# Altium schematic symbol library FPGA_Xilinx_Virtex7.SchLib: 34 symbols (part 23 of 26)
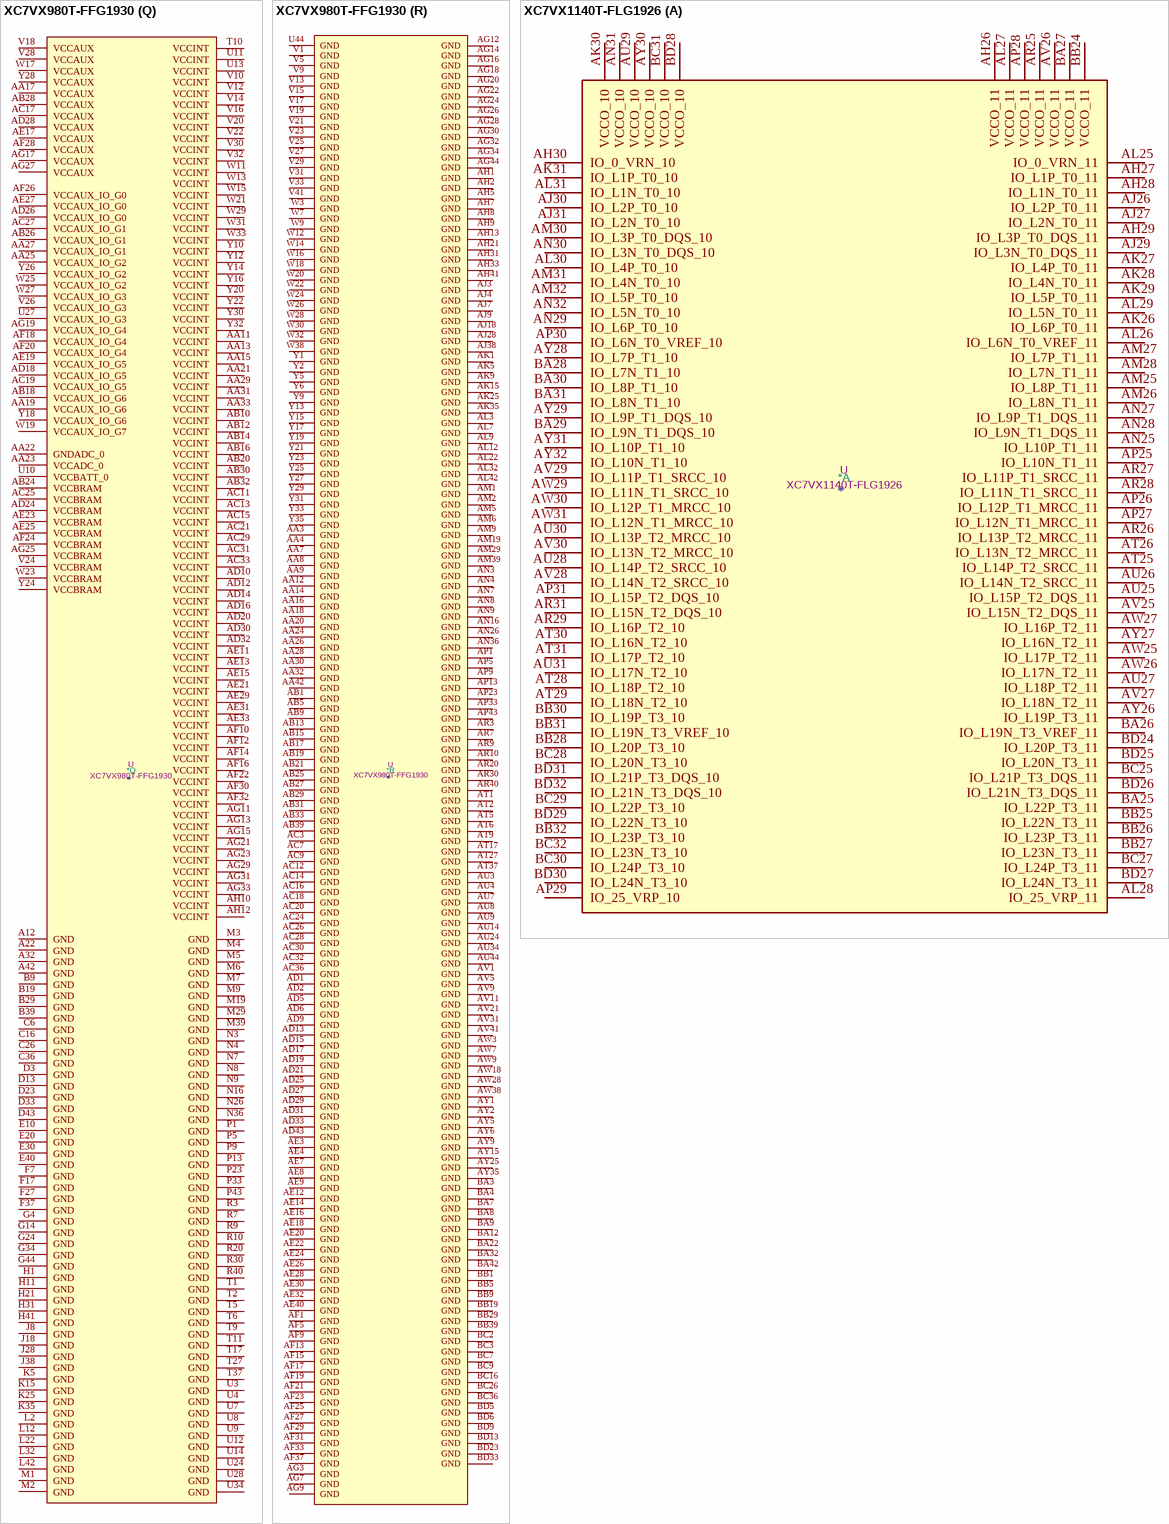
[diagram p194: symbols XC7VX980T-FFG1930 to XC7VX1140T-FLG1926]

## XC7VX980T-FFG1930
designator *  value XC7VX980T-FFG1930  Reference: U
Virtex 7 XT 980 XC7VX980T-FFG1930; ki_keywords: FPGA; Description_: Virtex 7 XT 980 XC7VX980T-FFG1930
part A pins: AH29 IO_L4P_T0_10, AH30 IO_L4N_T0_10, AJ29 IO_0_VRN_10, AJ30 IO_L1P_T0_10, AJ31 IO_L1N_T0_10, AK29 IO_L2P_T0_10, AK30 VCCO_10, AK31 IO_L5P_T0_10, AL29 IO_L2N_T0_10, AL30 IO_L3P_T0_DQS_10, AL31 IO_L5N_T0_10, AM30 IO_L3N_T0_DQS_10, AM31 IO_25_VRP_10, AN29 IO_L6P_T0_10, AN30 IO_L6N_T0_VREF_10, AN31 VCCO_10, AP29 IO_L8P_T1_10, AP30 IO_L8N_T1_10, AP31 IO_L7P_T1_10, AR29 IO_L10P_T1_10, AR31 IO_L7N_T1_10, AT29 IO_L10N_T1_10, AT30 IO_L9P_T1_DQS_10, AT31 IO_L9N_T1_DQS_10, AU29 VCCO_10, AU30 IO_L11P_T1_SRCC_10, AU31 IO_L11N_T1_SRCC_10, AV29 IO_L12P_T1_MRCC_10, AV30 IO_L12N_T1_MRCC_10, AV32 IO_L13P_T2_MRCC_10, AW29 IO_L15P_T2_DQS_10, AW30 IO_L14P_T2_SRCC_10, AW31 IO_L14N_T2_SRCC_10, AW32 IO_L13N_T2_MRCC_10, AW33 VCCO_10, AW34 IO_0_VRN_11, AW41 IO_L7P_T1_11, AW42 IO_L6P_T0_11, AW43 VCCO_11, AW44 IO_L1P_T0_11, AY29 IO_L15N_T2_DQS_10, AY30 VCCO_10, AY31 IO_L16P_T2_10, AY32 IO_L16N_T2_10, AY33 IO_L24P_T3_11, AY34 IO_25_VRP_11, AY36 IO_L18P_T2_11, AY37 IO_L16P_T2_11, AY38 IO_L16N_T2_11, AY39 IO_L11P_T1_SRCC_11, AY40 VCCO_11, AY41 IO_L7N_T1_11, AY42 IO_L6N_T0_VREF_11, AY43 IO_L3P_T0_DQS_11, AY44 IO_L1N_T0_11, BA28 IO_L17P_T2_10, BA29 IO_L17N_T2_10, BA30 IO_L18P_T2_10, BA31 IO_L18N_T2_10, BA33 IO_L24N_T3_11, BA34 IO_L19P_T3_11, BA35 IO_L19N_T3_VREF_11, BA36 IO_L18N_T2_11, BA37 VCCO_11, BA38 IO_L13P_T2_MRCC_11, BA39 IO_L11N_T1_SRCC_11, BA40 IO_L9P_T1_DQS_11, BA41 IO_L9N_T1_DQS_11, BA43 IO_L5P_T0_11, BA44 IO_L3N_T0_DQS_11, BB28 IO_L24P_T3_10, BB30 IO_L22P_T3_10, BB31 IO_L19P_T3_10, BB32 IO_L19N_T3_VREF_10, BB33 IO_L22P_T3_11, BB34 VCCO_11, BB35 IO_L23P_T3_11, BB36 IO_L15P_T2_DQS_11, BB37 IO_L15N_T2_DQS_11, BB38 IO_L13N_T2_MRCC_11, BB40 IO_L8P_T1_11, BB41 IO_L8N_T1_11, BB42 IO_L4P_T0_11, BB43 IO_L5N_T0_11, BB44 VCCO_11, BC28 IO_L24N_T3_10, BC29 IO_L23P_T3_10, BC30 IO_L22N_T3_10, BC31 VCCO_10, BC32 IO_L20P_T3_10, BC33 IO_L22N_T3_11, BC34 IO_L20P_T3_11, BC35 IO_L23N_T3_11, BC37 IO_L17P_T2_11, BC38 IO_L14P_T2_SRCC_11, BC39 IO_L12P_T1_MRCC_11, BC40 IO_L10P_T1_11, BC41 VCCO_11, BC42 IO_L2P_T0_11, BC43 IO_L4N_T0_11, BD29 IO_L23N_T3_10, BD30 IO_L21P_T3_DQS_10, BD31 IO_L21N_T3_DQS_10, BD32 IO_L20N_T3_10, BD34 IO_L20N_T3_11, BD35 IO_L21P_T3_DQS_11, BD36 IO_L21N_T3_DQS_11, BD37 IO_L17N_T2_11, BD38 VCCO_11, BD39 IO_L14N_T2_SRCC_11, BD40 IO_L12N_T1_MRCC_11, BD41 IO_L10N_T1_11, BD42 IO_L2N_T0_11
part B pins: AH26 VCCO_12, AH27 IO_L2P_T0_12, AH28 IO_0_VRN_12, AJ25 IO_L3P_T0_DQS_12, AJ26 IO_L3N_T0_DQS_12, AJ27 IO_L2N_T0_12, AK26 IO_L4P_T0_12, AK27 IO_L4N_T0_12, AK28 IO_L1P_T0_12, AL25 IO_L5P_T0_12, AL26 IO_L6P_T0_12, AL27 VCCO_12, AL28 IO_L1N_T0_12, AM25 IO_L5N_T0_12, AM26 IO_L6N_T0_VREF_12, AM27 IO_25_VRP_12, AM28 IO_L7P_T1_12, AN25 IO_L8P_T1_12, AN27 IO_L9P_T1_DQS_12, AN28 IO_L7N_T1_12, AP25 IO_L8N_T1_12, AP26 IO_L10P_T1_12, AP27 IO_L9N_T1_DQS_12, AP28 VCCO_12, AP32 IO_L24P_T3_13, AP34 IO_L21P_T3_DQS_13, AP35 IO_0_VRN_13, AP36 IO_L15P_T2_DQS_13, AP38 VCCO_13, AR25 VCCO_12, AR26 IO_L10N_T1_12, AR27 IO_L11P_T1_SRCC_12, AR28 IO_L11N_T1_SRCC_12, AR32 IO_L24N_T3_13, AR33 IO_L23P_T3_13, AR34 IO_L21N_T3_DQS_13, AR35 VCCO_13, AR36 IO_L17P_T2_13, AR37 IO_L15N_T2_DQS_13, AR38 IO_L12P_T1_MRCC_13, AR39 IO_L7P_T1_13, AR41 IO_L6P_T0_13, AR42 IO_L5P_T0_13, AR43 IO_L5N_T0_13, AR44 IO_L1P_T0_13, AT25 IO_L12P_T1_MRCC_12, AT26 IO_L12N_T1_MRCC_12, AT28 IO_L13P_T2_MRCC_12, AT32 VCCO_13, AT33 IO_L23N_T3_13, AT34 IO_L19P_T3_13, AT35 IO_L19N_T3_VREF_13, AT36 IO_L17N_T2_13, AT38 IO_L11P_T1_SRCC_13, AT39 IO_L12N_T1_MRCC_13, AT40 IO_L7N_T1_13, AT41 IO_L6N_T0_VREF_13, AT42 VCCO_13, AT43 IO_L3P_T0_DQS_13, AT44 IO_L1N_T0_13, AU25 IO_L15P_T2_DQS_12, AU26 IO_L14P_T2_SRCC_12, AU27 IO_L14N_T2_SRCC_12, AU28 IO_L13N_T2_MRCC_12, AU32 IO_L20P_T3_13, AU33 IO_L20N_T3_13, AU35 IO_25_VRP_13, AU36 IO_L13P_T2_MRCC_13, AU37 IO_L13N_T2_MRCC_13, AU38 IO_L11N_T1_SRCC_13, AU39 VCCO_13, AU40 IO_L9P_T1_DQS_13, AU41 IO_L9N_T1_DQS_13, AU42 IO_L4P_T0_13, AU43 IO_L3N_T0_DQS_13, AV25 IO_L15N_T2_DQS_12, AV26 VCCO_12, AV27 IO_L18P_T2_12, AV28 IO_L18N_T2_12, AV33 IO_L22P_T3_13, AV34 IO_L22N_T3_13, AV35 IO_L16P_T2_13, AV36 VCCO_13, AV37 IO_L14P_T2_SRCC_13, AV38 IO_L14N_T2_SRCC_13, AV39 IO_L10P_T1_13, AV40 IO_L8P_T1_13, AV42 IO_L4N_T0_13, AV43 IO_L2P_T0_13, AV44 IO_L2N_T0_13, AW25 IO_L17P_T2_12, AW26 IO_L16P_T2_12, AW27 IO_L16N_T2_12, AW35 IO_L16N_T2_13, AW36 IO_L18P_T2_13, AW37 IO_L18N_T2_13, AW39 IO_L10N_T1_13, AW40 IO_L8N_T1_13, AY26 IO_L17N_T2_12, AY27 IO_L19P_T3_12, AY28 IO_L19N_T3_VREF_12, BA25 IO_L21P_T3_DQS_12, BA26 IO_L21N_T3_DQS_12, BA27 VCCO_12, BB25 IO_L20P_T3_12, BB26 IO_L20N_T3_12, BB27 IO_L22P_T3_12, BC25 IO_L23P_T3_12, BC27 IO_L22N_T3_12, BD25 IO_L23N_T3_12, BD26 IO_L24P_T3_12, BD27 IO_L24N_T3_12, BD28 VCCO_12
part C pins: AH22 IO_L2P_T0_D02_14, AH23 IO_L2N_T0_D03_14, AH24 IO_L1P_T0_D00_MOSI_14, AH25 IO_L1N_T0_D01_DIN_14, AH32 IO_L21P_T3_DQS_15, AJ21 IO_0_VRN_14, AJ22 IO_L6P_T0_FCS_B_14, AJ23 VCCO_14, AJ24 IO_L5P_T0_D06_14, AJ32 IO_L21N_T3_DQS_A18_15, AJ33 VCCO_15, AJ34 IO_L19P_T3_A22_15, AJ35 IO_0_VRN_15, AJ36 IO_L13P_T2_MRCC_15, AK21 IO_L4P_T0_D04_14, AK22 IO_L6N_T0_D08_VREF_14, AK23 IO_L3P_T0_DQS_PUDC_B_14, AK24 IO_L5N_T0_D07_14, AK32 IO_L20P_T3_A20_15, AK33 IO_L20N_T3_A19_15, AK34 IO_L19N_T3_A21_VREF_15, AK36 IO_L16P_T2_A28_15, AK37 IO_L13N_T2_MRCC_15, AK38 IO_L11P_T1_SRCC_15, AK39 IO_L9P_T1_DQS_AD3P_15, AK40 VCCO_15, AK41 IO_L6P_T0_15, AL21 IO_L4N_T0_D05_14, AL23 IO_L3N_T0_DQS_EMCCLK_14, AL24 IO_25_VRP_14, AL33 IO_L23P_T3_FOE_B_15, AL34 IO_L23N_T3_FWE_B_15, AL35 IO_L18P_T2_A24_15, AL36 IO_L16N_T2_A27_15, AL37 VCCO_15, AL38 IO_L11N_T1_SRCC_15, AL39 IO_L9N_T1_DQS_AD3N_15, AL40 IO_L7P_T1_AD2P_15, AL41 IO_L6N_T0_VREF_15, AL43 IO_L1P_T0_AD0P_15, AL44 IO_L1N_T0_AD0N_15, AM21 IO_L8P_T1_D11_14, AM22 IO_L8N_T1_D12_14, AM23 IO_L7P_T1_D09_14, AM24 VCCO_14, AM32 IO_L22P_T3_A17_15, AM33 IO_L22N_T3_A16_15, AM34 VCCO_15, AM35 IO_L17P_T2_A26_15, AM36 IO_L18N_T2_A23_15, AM37 IO_L14P_T2_SRCC_15, AM38 IO_L14N_T2_SRCC_15, AM40 IO_L7N_T1_AD2N_15, AM41 IO_L2P_T0_AD8P_15, AM42 IO_L2N_T0_AD8N_15, AM43 IO_L5P_T0_AD9P_15, AM44 VCCO_15, AN21 VCCO_14, AN22 IO_L10P_T1_D14_14, AN23 IO_L7N_T1_D10_14, AN24 IO_L9P_T1_DQS_14, AN32 IO_25_VRP_15, AN33 IO_L24P_T3_RS1_15, AN34 IO_L24N_T3_RS0_15, AN35 IO_L17N_T2_A25_15, AN37 IO_L15P_T2_DQS_15, AN38 IO_L12P_T1_MRCC_15, AN39 IO_L12N_T1_MRCC_15, AN40 IO_L8P_T1_AD10P_15, AN41 VCCO_15, AN42 IO_L4P_T0_15, AN43 IO_L5N_T0_AD9N_15, AN44 IO_L3P_T0_DQS_AD1P_15, AP21 IO_L12P_T1_MRCC_14, AP22 IO_L10N_T1_D15_14, AP24 IO_L9N_T1_DQS_D13_14, AP37 IO_L15N_T2_DQS_ADV_B_15, AP39 IO_L10P_T1_AD11P_15, AP40 IO_L10N_T1_AD11N_15, AP41 IO_L8N_T1_AD10N_15, AP42 IO_L4N_T0_15, AP44 IO_L3N_T0_DQS_AD1N_15, AR21 IO_L13P_T2_MRCC_14, AR22 IO_L12N_T1_MRCC_14, AR23 IO_L11P_T1_SRCC_14, AR24 IO_L11N_T1_SRCC_14, AT21 IO_L13N_T2_MRCC_14, AT22 VCCO_14, AT23 IO_L14P_T2_SRCC_14, AT24 IO_L14N_T2_SRCC_14, AU21 IO_L15P_T2_DQS_RDWR_B_14, AU22 IO_L15N_T2_DQS_DOUT_CSO_B_14, AU23 IO_L16P_T2_CSI_B_14, AV22 IO_L17P_T2_A14_D30_14, AV23 IO_L16N_T2_A15_D31_14, AV24 IO_L18P_T2_A12_D28_14, AW22 IO_L17N_T2_A13_D29_14, AW23 VCCO_14, AW24 IO_L18N_T2_A11_D27_14, AY22 IO_L19P_T3_A10_D26_14, AY23 IO_L19N_T3_A09_D25_VREF_14, AY24 IO_L20P_T3_A08_D24_14, BA23 IO_L22P_T3_A05_D21_14, BA24 IO_L20N_T3_A07_D23_14, BB22 IO_L23P_T3_A03_D19_14, BB23 IO_L22N_T3_A04_D20_14, BB24 VCCO_14, BC22 IO_L21P_T3_DQS_14, BC23 IO_L23N_T3_A02_D18_14, BC24 IO_L24P_T3_A01_D17_14, BD22 IO_L21N_T3_DQS_A06_D22_14, BD24 IO_L24N_T3_A00_D16_14
part D pins: AA34 IO_L22P_T3_17, AA35 IO_L21N_T3_DQS_17, AA36 IO_L19P_T3_17, AA37 VCCO_17, AA38 IO_L15N_T2_DQS_17, AA39 IO_L14P_T2_SRCC_17, AA40 IO_L14N_T2_SRCC_17, AA41 IO_L9N_T1_DQS_17, AA43 IO_L1P_T0_17, AA44 IO_L1N_T0_17, AB34 VCCO_17, AB35 IO_L21P_T3_DQS_17, AB36 IO_L23P_T3_17, AB37 IO_L23N_T3_17, AB38 IO_L15P_T2_DQS_17, AB40 IO_L12N_T1_MRCC_17, AB41 IO_L9P_T1_DQS_17, AB42 IO_L8N_T1_17, AB43 IO_L5N_T0_17, AB44 VCCO_17, AC34 IO_L24P_T3_17, AC35 IO_L24N_T3_17, AC37 IO_25_VRP_17, AC38 IO_L17P_T2_17, AC39 IO_L17N_T2_17, AC40 IO_L12P_T1_MRCC_17, AC41 VCCO_17, AC42 IO_L8P_T1_17, AC43 IO_L5P_T0_17, AC44 IO_L3N_T0_DQS_17, AD34 IO_L20P_T3_16, AD35 IO_L20N_T3_16, AD36 IO_L19P_T3_16, AD37 IO_0_VRN_16, AD38 VCCO_16, AD39 IO_L7P_T1_16, AD40 IO_L7N_T1_16, AD41 IO_L10P_T1_17, AD42 IO_L10N_T1_17, AD44 IO_L3P_T0_DQS_17, AE34 IO_L21P_T3_DQS_16, AE35 VCCO_16, AE36 IO_L22P_T3_16, AE37 IO_L19N_T3_VREF_16, AE38 IO_L16P_T2_16, AE39 IO_L16N_T2_16, AE41 IO_L9P_T1_DQS_16, AE42 IO_L9N_T1_DQS_16, AE43 IO_L5P_T0_16, AE44 IO_L3P_T0_DQS_16, AF34 IO_L21N_T3_DQS_16, AF35 IO_L23P_T3_16, AF36 IO_L22N_T3_16, AF38 IO_L18P_T2_16, AF39 IO_L13P_T2_MRCC_16, AF40 IO_L13N_T2_MRCC_16, AF41 IO_L8P_T1_16, AF42 VCCO_16, AF43 IO_L5N_T0_16, AF44 IO_L3N_T0_DQS_16, AG35 IO_L24P_T3_16, AG36 IO_L23N_T3_16, AG37 IO_L15P_T2_DQS_16, AG38 IO_L18N_T2_16, AG39 VCCO_16, AG40 IO_L11P_T1_SRCC_16, AG41 IO_L8N_T1_16, AG42 IO_L10P_T1_16, AG43 IO_L2P_T0_16, AH34 IO_25_VRP_16, AH35 IO_L24N_T3_16, AH36 VCCO_16, AH37 IO_L17P_T2_16, AH38 IO_L15N_T2_DQS_16, AH39 IO_L14P_T2_SRCC_16, AH40 IO_L11N_T1_SRCC_16, AH42 IO_L10N_T1_16, AH43 IO_L2N_T0_16, AH44 IO_L1P_T0_16, AJ37 IO_L17N_T2_16, AJ39 IO_L14N_T2_SRCC_16, AJ40 IO_L12P_T1_MRCC_16, AJ41 IO_L12N_T1_MRCC_16, AJ42 IO_L6P_T0_16, AJ43 VCCO_16, AJ44 IO_L1N_T0_16, AK42 IO_L6N_T0_VREF_16, AK43 IO_L4P_T0_16, AK44 IO_L4N_T0_16, V42 IO_L7N_T1_17, V43 IO_L2P_T0_17, V44 IO_L2N_T0_17, W34 IO_L20P_T3_17, W35 IO_L20N_T3_17, W36 IO_0_VRN_17, W37 IO_L16N_T2_17, W39 IO_L18N_T2_17, W40 IO_L13N_T2_MRCC_17, W41 IO_L11N_T1_SRCC_17, W42 IO_L7P_T1_17, W43 VCCO_17, W44 IO_L4N_T0_17, Y34 IO_L22N_T3_17, Y36 IO_L19N_T3_VREF_17, Y37 IO_L16P_T2_17, Y38 IO_L18P_T2_17, Y39 IO_L13P_T2_MRCC_17, Y40 VCCO_17, Y41 IO_L11P_T1_SRCC_17, Y42 IO_L6P_T0_17, Y43 IO_L6N_T0_VREF_17, Y44 IO_L4P_T0_17
part E pins: K40 VCCO_19, L37 VCCO_19, M34 VCCO_19, M44 VCCO_19, N31 VCCO_19, N41 VCCO_19, P35 IO_0_VRN_18, P36 IO_L8N_T1_18, P37 IO_L12N_T1_MRCC_18, P38 VCCO_18, P39 IO_L15P_T2_DQS_18, P40 IO_L15N_T2_DQS_18, P41 IO_L21P_T3_DQS_18, P42 IO_L21N_T3_DQS_18, P44 IO_L24N_T3_18, R31 IO_L2P_T0_18, R32 IO_L2N_T0_18, R33 IO_L4P_T0_18, R34 IO_L4N_T0_18, R35 VCCO_18, R36 IO_L8P_T1_18, R37 IO_L12P_T1_MRCC_18, R38 IO_L14P_T2_SRCC_18, R39 IO_L14N_T2_SRCC_18, R41 IO_L19N_T3_VREF_18, R42 IO_L23P_T3_18, R43 IO_L23N_T3_18, R44 IO_L24P_T3_18, T30 IO_L1P_T0_18, T31 IO_L1N_T0_18, T32 VCCO_18, T33 IO_L6P_T0_18, T34 IO_L6N_T0_VREF_18, T35 IO_L10P_T1_18, T36 IO_L10N_T1_18, T38 IO_L13N_T2_MRCC_18, T39 IO_L17P_T2_18, T40 IO_L17N_T2_18, T41 IO_L19P_T3_18, T42 VCCO_18, T43 IO_L22P_T3_18, T44 IO_L22N_T3_18, U30 IO_L3P_T0_DQS_18, U31 IO_L3N_T0_DQS_18, U32 IO_L5P_T0_18, U33 IO_L5N_T0_18, U35 IO_L9N_T1_DQS_18, U36 IO_L7P_T1_18, U37 IO_L7N_T1_18, U38 IO_L13P_T2_MRCC_18, U39 VCCO_18, U40 IO_L18P_T2_18, U41 IO_L18N_T2_18, U42 IO_L20P_T3_18, U43 IO_L20N_T3_18, V34 IO_25_VRP_18, V35 IO_L9P_T1_DQS_18, V36 VCCO_18, V37 IO_L11P_T1_SRCC_18, V38 IO_L11N_T1_SRCC_18, V39 IO_L16P_T2_18, V40 IO_L16N_T2_18
part F pins: A37 VCCO_21, B34 VCCO_21, C31 VCCO_21, C41 VCCO_21, D38 VCCO_21, E35 VCCO_20, F32 VCCO_20, F42 VCCO_21, G39 VCCO_20, H36 VCCO_20, J33 VCCO_20, J43 VCCO_20
part G pins: AH14 IO_0_VRN_31, AH15 IO_L4P_T0_31, AH16 VCCO_31, AH17 IO_25_VRP_30, AH18 IO_0_VRN_30, AH19 IO_L3P_T0_DQS_30, AH20 IO_L5P_T0_30, AJ14 IO_L1P_T0_31, AJ15 IO_L4N_T0_31, AJ16 IO_L2P_T0_31, AJ17 IO_L1P_T0_30, AJ19 IO_L3N_T0_DQS_30, AJ20 IO_L5N_T0_30, AK14 IO_L1N_T0_31, AK16 IO_L2N_T0_31, AK17 IO_L1N_T0_30, AK18 IO_L2P_T0_30, AK19 IO_L4P_T0_30, AK20 VCCO_30, AL14 IO_L3N_T0_DQS_31, AL15 IO_L3P_T0_DQS_31, AL16 IO_L5P_T0_31, AL17 VCCO_30, AL18 IO_L2N_T0_30, AL19 IO_L4N_T0_30, AL20 IO_L6P_T0_30, AM14 VCCO_31, AM15 IO_L6P_T0_31, AM16 IO_L5N_T0_31, AM17 IO_25_VRP_31, AM18 IO_L7P_T1_30, AM20 IO_L6N_T0_VREF_30, AN15 IO_L6N_T0_VREF_31, AN17 IO_L7N_T1_30, AN18 IO_L8N_T1_30, AN19 IO_L8P_T1_30, AN20 IO_L10P_T1_30, AP14 IO_L8N_T1_31, AP15 IO_L8P_T1_31, AP16 IO_L10P_T1_31, AP17 IO_L7P_T1_31, AP18 VCCO_30, AP19 IO_L9P_T1_DQS_30, AP20 IO_L10N_T1_30, AR14 IO_L9P_T1_DQS_31, AR15 VCCO_31, AR16 IO_L10N_T1_31, AR17 IO_L7N_T1_31, AR18 IO_L9N_T1_DQS_30, AR19 IO_L12P_T1_MRCC_30, AT14 IO_L9N_T1_DQS_31, AT15 IO_L11P_T1_SRCC_31, AT16 IO_L12P_T1_MRCC_31, AT18 IO_L12N_T1_MRCC_30, AT19 IO_L11N_T1_SRCC_30, AT20 IO_L11P_T1_SRCC_30, AU15 IO_L11N_T1_SRCC_31, AU16 IO_L12N_T1_MRCC_31, AU17 IO_L14P_T2_SRCC_31, AU18 IO_L14P_T2_SRCC_30, AU19 VCCO_30, AU20 IO_L13P_T2_MRCC_30, AV14 IO_L13N_T2_MRCC_31, AV15 IO_L13P_T2_MRCC_31, AV16 VCCO_31, AV17 IO_L14N_T2_SRCC_31, AV18 IO_L14N_T2_SRCC_30, AV19 IO_L15P_T2_DQS_30, AV20 IO_L13N_T2_MRCC_30, AW14 IO_L15P_T2_DQS_31, AW15 IO_L17N_T2_31, AW16 IO_L17P_T2_31, AW17 IO_L18P_T2_31, AW19 IO_L15N_T2_DQS_30, AW20 IO_L18P_T2_30, AW21 IO_L16P_T2_30, AY14 IO_L15N_T2_DQS_31, AY16 IO_L16P_T2_31, AY17 IO_L18N_T2_31, AY18 IO_L17P_T2_30, AY19 IO_L18N_T2_30, AY20 VCCO_30, AY21 IO_L16N_T2_30, BA14 IO_L19N_T3_VREF_31, BA15 IO_L19P_T3_31, BA16 IO_L16N_T2_31, BA17 VCCO_31, BA18 IO_L17N_T2_30, BA19 IO_L19N_T3_VREF_30, BA20 IO_L19P_T3_30, BA21 IO_L20P_T3_30, BB14 VCCO_31, BB15 IO_L20N_T3_31, BB16 IO_L20P_T3_31, BB17 IO_L23P_T3_31, BB18 IO_L23P_T3_30, BB20 IO_L22P_T3_30, BB21 IO_L20N_T3_30, BC14 IO_L22N_T3_31, BC15 IO_L22P_T3_31, BC17 IO_L23N_T3_31, BC18 IO_L23N_T3_30, BC19 IO_L21P_T3_DQS_30, BC20 IO_L22N_T3_30, BC21 VCCO_30, BD14 IO_L21N_T3_DQS_31, BD15 IO_L21P_T3_DQS_31, BD16 IO_L24N_T3_31, BD17 IO_L24P_T3_31, BD18 VCCO_30, BD19 IO_L21N_T3_DQS_30, BD20 IO_L24N_T3_30, BD21 IO_L24P_T3_30
part H pins: A27 VCCO_33, A28 IO_L20P_T3_33, A29 IO_L20N_T3_33, A30 IO_L24N_T3_33, AJ12 IO_L1P_T0_32, AJ13 VCCO_32, AK11 IO_0_VRN_32, AK12 IO_L1N_T0_32, AK13 IO_L2P_T0_32, AL10 IO_L4N_T0_32, AL11 IO_L4P_T0_32, AL13 IO_L2N_T0_32, AM10 IO_L6N_T0_VREF_32, AM11 IO_L6P_T0_32, AM12 IO_L3P_T0_DQS_32, AM13 IO_L5P_T0_32, AN10 IO_L8P_T1_32, AN11 VCCO_32, AN12 IO_L3N_T0_DQS_32, AN13 IO_L5N_T0_32, AN14 IO_25_VRP_32, AP10 IO_L8N_T1_32, AP11 IO_L10P_T1_32, AP12 IO_L7P_T1_32, AR11 IO_L10N_T1_32, AR12 IO_L7N_T1_32, AR13 IO_L9P_T1_DQS_32, AT10 IO_L12N_T1_MRCC_32, AT11 IO_L12P_T1_MRCC_32, AT12 VCCO_32, AT13 IO_L9N_T1_DQS_32, AU10 IO_L13N_T2_MRCC_32, AU11 IO_L13P_T2_MRCC_32, AU12 IO_L11N_T1_SRCC_32, AU13 IO_L11P_T1_SRCC_32, AV10 IO_L15P_T2_DQS_32, AV12 IO_L14N_T2_SRCC_32, AV13 IO_L14P_T2_SRCC_32, AW10 IO_L15N_T2_DQS_32, AW11 IO_L17P_T2_32, AW12 IO_L16P_T2_32, AW13 VCCO_32, AY10 VCCO_32, AY11 IO_L17N_T2_32, AY12 IO_L16N_T2_32, AY13 IO_L18P_T2_32, B27 IO_L23P_T3_33, B28 IO_L23N_T3_33, B30 IO_L24P_T3_33, BA10 IO_L19N_T3_VREF_32, BA11 IO_L19P_T3_32, BA13 IO_L18N_T2_32, BB10 IO_L21N_T3_DQS_32, BB11 IO_L21P_T3_DQS_32, BB12 IO_L20N_T3_32, BB13 IO_L20P_T3_32, BC10 IO_L23P_T3_32, BC11 VCCO_32, BC12 IO_L22N_T3_32, BC13 IO_L22P_T3_32, BD10 IO_L23N_T3_32, BD11 IO_L24N_T3_32, BD12 IO_L24P_T3_32, C27 IO_L21P_T3_DQS_33, C28 IO_L21N_T3_DQS_33, C29 IO_L22P_T3_33, C30 IO_L22N_T3_33, D27 IO_L15N_T2_DQS_33, D28 VCCO_33, D29 IO_L19P_T3_33, D30 IO_L19N_T3_VREF_33, E27 IO_L15P_T2_DQS_33, E28 IO_L17N_T2_33, E29 IO_L16N_T2_33, F28 IO_L17P_T2_33, F29 IO_L16P_T2_33, F30 IO_L18N_T2_33, G27 IO_L14P_T2_SRCC_33, G28 IO_L14N_T2_SRCC_33, G29 VCCO_33, G30 IO_L18P_T2_33, H27 IO_L13P_T2_MRCC_33, H28 IO_L13N_T2_MRCC_33, H29 IO_L12P_T1_MRCC_33, H30 IO_L12N_T1_MRCC_33, J27 IO_L10N_T1_33, J29 IO_L11P_T1_SRCC_33, J30 IO_L11N_T1_SRCC_33, K27 IO_L10P_T1_33, K28 IO_L8N_T1_33, K29 IO_L9N_T1_DQS_33, K30 VCCO_33, L27 VCCO_33, L28 IO_L8P_T1_33, L29 IO_L9P_T1_DQS_33, M27 IO_L7P_T1_33, M28 IO_L7N_T1_33, N27 IO_L5P_T0_33, N28 IO_L5N_T0_33, N29 IO_25_VRP_33, P26 IO_L4P_T0_33, P27 IO_L4N_T0_33, P28 VCCO_33, P29 IO_L3N_T0_DQS_33, R26 IO_L2N_T0_33, R27 IO_L6P_T0_33, R28 IO_L6N_T0_VREF_33, R29 IO_L3P_T0_DQS_33, T26 IO_L2P_T0_33, T28 IO_L1P_T0_33, T29 IO_L1N_T0_33, U26 IO_0_VRN_33, U29 VCCO_33
part I pins: A20 IO_L24N_T3_35, A21 IO_L24P_T3_35, A23 IO_L23N_T3_35, A24 IO_L21P_T3_DQS_34, A25 IO_L21N_T3_DQS_34, A26 IO_L23N_T3_34, B20 IO_L20N_T3_35, B21 IO_L22N_T3_35, B22 IO_L21N_T3_DQS_35, B23 IO_L23P_T3_35, B24 VCCO_34, B25 IO_L24N_T3_34, B26 IO_L23P_T3_34, C20 IO_L20P_T3_35, C21 VCCO_35, C22 IO_L22P_T3_35, C23 IO_L21P_T3_DQS_35, C24 IO_L24P_T3_34, C25 IO_L22N_T3_34, D20 IO_L19N_T3_VREF_35, D21 IO_L19P_T3_35, D22 IO_L18N_T2_35, D24 IO_L20N_T3_34, D25 IO_L22P_T3_34, D26 IO_L19N_T3_VREF_34, E21 IO_L16N_T2_35, E22 IO_L16P_T2_35, E23 IO_L18P_T2_35, E24 IO_L20P_T3_34, E25 VCCO_34, E26 IO_L19P_T3_34, F20 IO_L15N_T2_DQS_35, F21 IO_L17N_T2_35, F22 VCCO_35, F23 IO_L17N_T2_34, F24 IO_L16P_T2_34, F25 IO_L16N_T2_34, F26 IO_L18N_T2_34, G20 IO_L15P_T2_DQS_35, G21 IO_L17P_T2_35, G22 IO_L14N_T2_SRCC_35, G23 IO_L17P_T2_34, G25 IO_L15N_T2_DQS_34, G26 IO_L18P_T2_34, H20 IO_L13N_T2_MRCC_35, H22 IO_L14P_T2_SRCC_35, H23 IO_L13P_T2_MRCC_34, H24 IO_L13N_T2_MRCC_34, H25 IO_L15P_T2_DQS_34, H26 VCCO_34, J20 IO_L13P_T2_MRCC_35, J21 IO_L12N_T1_MRCC_35, J22 IO_L11N_T1_SRCC_35, J23 VCCO_34, J24 IO_L12N_T1_MRCC_34, J25 IO_L14P_T2_SRCC_34, J26 IO_L14N_T2_SRCC_34, K20 VCCO_35, K21 IO_L12P_T1_MRCC_35, K22 IO_L11P_T1_SRCC_35, K23 IO_L10N_T1_34, K24 IO_L12P_T1_MRCC_34, K26 IO_L11N_T1_SRCC_34, L19 IO_L9N_T1_DQS_AD7N_35, L20 IO_L9P_T1_DQS_AD7P_35, L21 IO_L10N_T1_AD15N_35, L23 IO_L10P_T1_34, L24 IO_L7P_T1_34, L25 IO_L7N_T1_34, L26 IO_L11P_T1_SRCC_34, M20 IO_L8N_T1_AD14N_35, M21 IO_L10P_T1_AD15P_35, M22 IO_L7N_T1_AD6N_35, M23 IO_L8N_T1_34, M24 VCCO_34, M25 IO_L9P_T1_DQS_34, M26 IO_L9N_T1_DQS_34, N19 IO_L6N_T0_VREF_35, N20 IO_L8P_T1_AD14P_35, N21 VCCO_35, N22 IO_L7P_T1_AD6P_35, N23 IO_L8P_T1_34, N24 IO_L1N_T0_34, N25 IO_25_VRP_34, P18 VCCO_35, P19 IO_L4N_T0_35, P20 IO_L6P_T0_35, P21 IO_25_VRP_35, P22 IO_L4N_T0_34, P24 IO_L1P_T0_34, P25 IO_L3N_T0_DQS_34, R18 IO_L2N_T0_AD12N_35, R19 IO_L4P_T0_35, R21 IO_L5N_T0_AD13N_35, R22 IO_L4P_T0_34, R23 IO_L2N_T0_34, R24 IO_L3P_T0_DQS_34, R25 VCCO_34, T18 IO_L2P_T0_AD12P_35, T19 IO_L1N_T0_AD4N_35, T20 IO_L1P_T0_AD4P_35, T21 IO_L5P_T0_AD13P_35, T22 VCCO_34, T23 IO_L2P_T0_34, T24 IO_L6N_T0_VREF_34, T25 IO_L5N_T0_34, U18 IO_0_VRN_35, U19 VCCO_35, U20 IO_L3N_T0_DQS_AD5N_35, U21 IO_L3P_T0_DQS_AD5P_35, U22 IO_0_VRN_34, U23 IO_L6P_T0_34, U25 IO_L5P_T0_34
part J pins: A3 IO_L1N_T0_36, A4 IO_L1P_T0_36, A5 IO_L4N_T0_36, A6 IO_L2N_T0_36, A7 VCCO_37, A8 IO_L2N_T0_37, A9 IO_L2P_T0_37, A10 IO_L3N_T0_DQS_37, A11 IO_L1N_T0_37, B2 IO_L5N_T0_36, B3 IO_L3N_T0_DQS_36, B4 VCCO_36, B5 IO_L4P_T0_36, B6 IO_L2P_T0_36, B7 IO_L4N_T0_37, B8 IO_L4P_T0_37, B10 IO_L3P_T0_DQS_37, B11 IO_L1P_T0_37, C1 VCCO_36, C2 IO_L5P_T0_36, C3 IO_L3P_T0_DQS_36, C4 IO_L6N_T0_VREF_36, C5 IO_L6P_T0_36, C7 IO_L6N_T0_VREF_37, C8 IO_L6P_T0_37, C9 IO_L5N_T0_37, C10 IO_L5P_T0_37, C11 VCCO_37, D1 IO_L7N_T1_36, D2 IO_L7P_T1_36, D4 IO_L10N_T1_36, D5 IO_L8N_T1_36, D6 IO_L10N_T1_37, D7 IO_L10P_T1_37, D8 VCCO_37, D9 IO_L9N_T1_DQS_37, D10 IO_L9P_T1_DQS_37, D11 IO_L7N_T1_37, E1 IO_L9N_T1_DQS_36, E2 IO_L12N_T1_MRCC_36, E3 IO_L12P_T1_MRCC_36, E4 IO_L10P_T1_36, E5 VCCO_36, E6 IO_L8P_T1_36, E7 IO_L12N_T1_MRCC_37, E8 IO_L8N_T1_37, E9 IO_L8P_T1_37, E11 IO_L7P_T1_37, F1 IO_L9P_T1_DQS_36, F2 VCCO_36, F3 IO_L11N_T1_SRCC_36, F4 IO_L11P_T1_SRCC_36, F5 IO_L13N_T2_MRCC_36, F6 IO_L13P_T2_MRCC_36, F8 IO_L12P_T1_MRCC_37, F9 IO_L11N_T1_SRCC_37, F10 IO_L11P_T1_SRCC_37, F11 IO_L13N_T2_MRCC_37, G1 IO_L18N_T2_36, G2 IO_L14N_T2_SRCC_36, G3 IO_L14P_T2_SRCC_36, G5 IO_L15N_T2_DQS_36, G6 IO_L15P_T2_DQS_36, G7 IO_L14N_T2_SRCC_37, G8 IO_L14P_T2_SRCC_37, G9 VCCO_37, G10 IO_L16N_T2_37, G11 IO_L13P_T2_MRCC_37, H2 IO_L18P_T2_36, H3 IO_L16N_T2_36, H4 IO_L16P_T2_36, H5 IO_L17N_T2_36, H6 VCCO_36, H7 IO_L17N_T2_37, H8 IO_L17P_T2_37, H9 IO_L15N_T2_DQS_37, H10 IO_L16P_T2_37, J1 IO_L20N_T3_36, J2 IO_L20P_T3_36, J3 VCCO_36, J4 IO_L19N_T3_VREF_36, J5 IO_L19P_T3_36, J6 IO_L17P_T2_36, J7 IO_L20N_T3_37, J9 IO_L15P_T2_DQS_37, J10 IO_L18N_T2_37, J11 IO_L18P_T2_37, K1 IO_L22N_T3_36, K2 IO_L23N_T3_36, K3 IO_L21N_T3_DQS_36, K4 IO_L21P_T3_DQS_36, K6 IO_0_VRN_36, K7 IO_L20P_T3_37, K8 IO_L19N_T3_VREF_37, K9 IO_L19P_T3_37, K10 VCCO_37, K11 IO_0_VRN_37, L1 IO_L22P_T3_36, L3 IO_L23P_T3_36, L4 IO_25_VRP_36, L5 IO_L24N_T3_36, L6 IO_L24P_T3_36, L7 VCCO_37, L8 IO_L22N_T3_37, L9 IO_L22P_T3_37, L10 IO_L21N_T3_DQS_37, L11 IO_L21P_T3_DQS_37, M8 IO_25_VRP_37, M10 IO_L23N_T3_37, M11 IO_L23P_T3_37, N10 IO_L24N_T3_37, N11 VCCO_37, P10 IO_L24P_T3_37
part K pins: A13 IO_L3N_T0_DQS_38, A14 IO_L3P_T0_DQS_38, A17 VCCO_39, B12 IO_L2N_T0_38, B13 IO_L5N_T0_38, B14 VCCO_38, C12 IO_L2P_T0_38, C13 IO_L5P_T0_38, C14 IO_L1N_T0_38, D12 IO_L4N_T0_38, D14 IO_L1P_T0_38, D18 VCCO_39, E12 IO_L4P_T0_38, E13 IO_L6N_T0_VREF_38, E14 IO_L6P_T0_38, E15 VCCO_38, F12 VCCO_38, F13 IO_L9N_T1_DQS_38, F14 IO_L9P_T1_DQS_38, F15 IO_L7N_T1_38, G12 IO_L8N_T1_38, G13 IO_L8P_T1_38, G15 IO_L7P_T1_38, G19 VCCO_39, H12 IO_L11N_T1_SRCC_38, H13 IO_L11P_T1_SRCC_38, H14 IO_L10N_T1_38, H15 IO_L10P_T1_38, H16 VCCO_39, J12 IO_L14N_T2_SRCC_38, J13 VCCO_38, J14 IO_L12N_T1_MRCC_38, J15 IO_L12P_T1_MRCC_38, K12 IO_L14P_T2_SRCC_38, K13 IO_L13N_T2_MRCC_38, K14 IO_L13P_T2_MRCC_38, L13 IO_L16N_T2_38, L14 IO_L16P_T2_38, L15 IO_L15N_T2_DQS_38, L17 VCCO_39, M12 IO_L18N_T2_38, M13 IO_L18P_T2_38, M14 VCCO_38, M15 IO_L15P_T2_DQS_38, N12 IO_L19N_T3_VREF_38, N13 IO_L19P_T3_38, N14 IO_L17N_T2_38, N15 IO_L17P_T2_38, P11 IO_L20N_T3_38, P12 IO_L20P_T3_38, P14 IO_L21N_T3_DQS_38, P15 IO_0_VRN_38, R11 IO_25_VRP_38, R12 IO_L22N_T3_38, R13 IO_L22P_T3_38, R14 IO_L21P_T3_DQS_38, R15 VCCO_39, T12 VCCO_38, T13 IO_L23N_T3_38, T14 IO_L23P_T3_38, T15 IO_L24N_T3_38, U15 IO_L24P_T3_38
part L pins: AP3 MGTHTXN3_114, AP4 MGTHTXP3_114, AR1 MGTHTXN2_114, AR2 MGTHTXP2_114, AR5 MGTHRXN3_114, AR6 MGTHRXP3_114, AT3 MGTHRXN2_114, AT4 MGTHRXP2_114, AT7 MGTREFCLK0N_114, AT8 MGTREFCLK0P_114, AU1 MGTHTXN1_114, AU2 MGTHTXP1_114, AU5 MGTHRXN1_114, AU6 MGTHRXP1_114, AV3 MGTHTXN0_114, AV4 MGTHTXP0_114, AV7 MGTREFCLK1N_114, AV8 MGTREFCLK1P_114, AW1 MGTHTXN3_113, AW2 MGTHTXP3_113, AW5 MGTHRXN0_114, AW6 MGTHRXP0_114, AY3 MGTHRXN3_113, AY4 MGTHRXP3_113, AY7 MGTREFCLK0N_113, AY8 MGTREFCLK0P_113, BA1 MGTHTXN2_113, BA2 MGTHTXP2_113, BA5 MGTHRXN2_113, BA6 MGTHRXP2_113, BB3 MGTHTXN1_113, BB4 MGTHTXP1_113, BB7 MGTREFCLK1N_113, BB8 MGTREFCLK1P_113, BC5 MGTHRXN1_113, BC6 MGTHRXP1_113, BD3 MGTHTXN0_113, BD4 MGTHTXP0_113, BD7 MGTHRXN0_113, BD8 MGTHRXP0_113
part M pins: AC1 MGTHTXN3_116, AC2 MGTHTXP3_116, AC5 MGTHRXN3_116, AC6 MGTHRXP3_116, AD7 MGTREFCLK0N_116, AD8 MGTREFCLK0P_116, AE1 MGTHTXN2_116, AE2 MGTHTXP2_116, AE5 MGTHRXN2_116, AE6 MGTHRXP2_116, AF3 MGTHTXN1_116, AF4 MGTHTXP1_116, AF7 MGTREFCLK1N_116, AF8 MGTREFCLK1P_116, AG1 MGTHTXN0_116, AG2 MGTHTXP0_116, AG5 MGTHRXN0_116, AG6 MGTHRXP0_116, AH3 MGTHRXN1_116, AH4 MGTHRXP1_116, AJ1 MGTHTXN3_115, AJ2 MGTHTXP3_115, AJ5 MGTHRXN3_115, AJ6 MGTHRXP3_115, AK3 MGTHTXN2_115, AK4 MGTHTXP2_115, AL1 MGTHTXN1_115, AL2 MGTHTXP1_115, AL5 MGTHRXN1_115, AL6 MGTHRXP1_115, AM3 MGTHRXN2_115, AM4 MGTHRXP2_115, AM7 MGTREFCLK0N_115, AM8 MGTREFCLK0P_115, AN1 MGTHTXN0_115, AN2 MGTHTXP0_115, AN5 MGTHRXN0_115, AN6 MGTHRXP0_115, AP7 MGTREFCLK1N_115, AP8 MGTREFCLK1P_115
part N pins: AA1 MGTHTXN1_117, AA2 MGTHTXP1_117, AA5 MGTHRXN1_117, AA6 MGTHRXP1_117, AB3 MGTHTXN0_117, AB4 MGTHTXP0_117, AB7 MGTREFCLK1N_117, AB8 MGTREFCLK1P_117, AD3 MGTHRXN0_117, AD4 MGTHRXP0_117, N1 MGTHTXN3_118, N2 MGTHTXP3_118, N5 MGTHRXN3_118, N6 MGTHRXP3_118, P3 MGTHTXN2_118, P4 MGTHTXP2_118, R1 MGTHTXN1_118, R2 MGTHTXP1_118, R5 MGTHRXN2_118, R6 MGTHRXP2_118, T3 MGTHRXN1_118, T4 MGTHRXP1_118, T7 MGTREFCLK0N_118, T8 MGTREFCLK0P_118, U1 MGTHTXN0_118, U2 MGTHTXP0_118, U5 MGTHRXN0_118, U6 MGTHRXP0_118, V3 MGTHTXN3_117, V4 MGTHTXP3_117, V7 MGTREFCLK1N_118, V8 MGTREFCLK1P_118, W1 MGTHTXN2_117, W2 MGTHTXP2_117, W5 MGTHRXN3_117, W6 MGTHRXP3_117, Y3 MGTHRXN2_117, Y4 MGTHRXP2_117, Y7 MGTREFCLK0N_117, Y8 MGTREFCLK0P_117
part O pins: AB2 MGTAVTT_G11, AB6 MGTAVCC_G11, AC4 MGTAVTT_G11, AC8 MGTAVCC_G11, AF2 MGTAVTT_G11, AF6 MGTAVCC_G11, AG4 MGTAVTT_G11, AG8 MGTVCCAUX_G11, AH6 MGTAVCC_G11, AJ8 MGTVCCAUX_G10, AK2 MGTAVTT_G10, AK6 MGTAVCC_G10, AK7 MGTAVTTRCAL_115, AK8 MGTRREF_115, AL4 MGTAVTT_G10, AL8 MGTAVCC_G10, AP2 MGTAVTT_G10, AP6 MGTAVCC_G10, AR4 MGTAVTT_G10, AR8 MGTAVCC_G10, AV2 MGTAVTT_G10, AV6 MGTAVCC_G10, AW4 MGTAVTT_G10, AW8 MGTAVCC_G10, BB2 MGTAVTT_G10, BB6 MGTAVCC_G10, BC4 MGTAVTT_G10, BC8 MGTAVCC_G10, P2 MGTAVTT_G11, P6 MGTAVCC_G11, R4 MGTAVTT_G11, R8 MGTAVCC_G11, V2 MGTAVTT_G11, V6 MGTAVCC_G11, W4 MGTAVTT_G11, W8 MGTAVCC_G11
part P pins: AA10 TDI_0, AB11 TDO_0, AB22 VREFN_0, AB23 VP_0, AC10 INIT_B_0, AC22 VN_0, AC23 VREFP_0, AD11 DONE_0, AD22 DXN_0, AD23 DXP_0, AE10 PROGRAM_B_0, AF11 CFGBVS_0, AG10 M2_0, AH11 M0_0, AJ10 M1_0, AJ11 VCCO_0, AK10 VCCO_0, V11 CCLK_0, W10 TCK_0, Y11 TMS_0
part Q pins: A12 GND, A22 GND, A32 GND, A42 GND, AA11 VCCINT, AA13 VCCINT, AA15 VCCINT, AA17 VCCAUX, AA19 VCCAUX_IO_G6, AA21 VCCINT, AA22 GNDADC_0, AA23 VCCADC_0, AA25 VCCAUX_IO_G2, AA27 VCCAUX_IO_G1, AA29 VCCINT, AA31 VCCINT, AA33 VCCINT, AB10 VCCINT, AB12 VCCINT, AB14 VCCINT, AB16 VCCINT, AB18 VCCAUX_IO_G6, AB20 VCCINT, AB24 VCCBRAM, AB26 VCCAUX_IO_G1, AB28 VCCAUX, AB30 VCCINT, AB32 VCCINT, AC11 VCCINT, AC13 VCCINT, AC15 VCCINT, AC17 VCCAUX, AC19 VCCAUX_IO_G5, AC21 VCCINT, AC25 VCCBRAM, AC27 VCCAUX_IO_G1, AC29 VCCINT, AC31 VCCINT, AC33 VCCINT, AD10 VCCINT, AD12 VCCINT, AD14 VCCINT, AD16 VCCINT, AD18 VCCAUX_IO_G5, AD20 VCCINT, AD24 VCCBRAM, AD26 VCCAUX_IO_G0, AD28 VCCAUX, AD30 VCCINT, AD32 VCCINT, AE11 VCCINT, AE13 VCCINT, AE15 VCCINT, AE17 VCCAUX, AE19 VCCAUX_IO_G5, AE21 VCCINT, AE23 VCCBRAM, AE25 VCCBRAM, AE27 VCCAUX_IO_G0, AE29 VCCINT, AE31 VCCINT, AE33 VCCINT, AF10 VCCINT, AF12 VCCINT, AF14 VCCINT, AF16 VCCINT, AF18 VCCAUX_IO_G4, AF20 VCCAUX_IO_G4, AF22 VCCINT, AF24 VCCBRAM, AF26 VCCAUX_IO_G0, AF28 VCCAUX, AF30 VCCINT, AF32 VCCINT, AG11 VCCINT, AG13 VCCINT, AG15 VCCINT, AG17 VCCAUX, AG19 VCCAUX_IO_G4, AG21 VCCINT, AG23 VCCINT, AG25 VCCBRAM, AG27 VCCAUX, AG29 VCCINT, AG31 VCCINT, AG33 VCCINT, AH10 VCCINT, AH12 VCCINT, B9 GND, B19 GND, B29 GND, B39 GND, C6 GND, C16 GND, C26 GND, C36 GND, D3 GND, D13 GND, D23 GND, D33 GND, D43 GND, E10 GND, E20 GND, E30 GND, E40 GND, F7 GND, F17 GND, F27 GND, F37 GND, G4 GND, G14 GND, G24 GND, G34 GND, G44 GND, H1 GND, H11 GND, H21 GND, H31 GND, H41 GND, J8 GND, J18 GND, J28 GND, J38 GND, K5 GND, K15 GND, K25 GND, K35 GND, L2 GND, L12 GND, L22 GND, L32 GND, L42 GND, M1 GND, M2 GND, M3 GND, M4 GND, M5 GND, M6 GND, M7 GND, M9 GND, M19 GND, M29 GND, M39 GND, N3 GND, N4 GND, N7 GND, N8 GND, N9 GND, N16 GND, N26 GND, N36 GND, P1 GND, P5 GND, P9 GND, P13 GND, P23 GND, P33 GND, P43 GND, R3 GND, R7 GND, R9 GND, R10 GND, R20 GND, R30 GND, R40 GND, T1 GND, T2 GND, T5 GND, T6 GND, T9 GND, T10 VCCINT, T11 GND, T17 GND, T27 GND, T37 GND, U3 GND, U4 GND, U7 GND, U8 GND, U9 GND, U10 VCCBATT_0, U11 VCCINT, U12 GND, U13 VCCINT, U14 GND, U24 GND, U27 VCCAUX_IO_G3, U28 GND, U34 GND, V10 VCCINT, V12 VCCINT, V14 VCCINT, V16 VCCINT, V18 VCCAUX, V20 VCCINT, V22 VCCINT, V24 VCCBRAM, V26 VCCAUX_IO_G3, V28 VCCAUX, V30 VCCINT, V32 VCCINT, W11 VCCINT, W13 VCCINT, W15 VCCINT, W17 VCCAUX, W19 VCCAUX_IO_G7, W21 VCCINT, W23 VCCBRAM, W25 VCCAUX_IO_G2, W27 VCCAUX_IO_G3, W29 VCCINT, W31 VCCINT, W33 VCCINT, Y10 VCCINT, Y12 VCCINT, Y14 VCCINT, Y16 VCCINT, Y18 VCCAUX_IO_G6, Y20 VCCINT, Y22 VCCINT, Y24 VCCBRAM, Y26 VCCAUX_IO_G2, Y28 VCCAUX, Y30 VCCINT, Y32 VCCINT
part R pins: AA3 GND, AA4 GND, AA7 GND, AA8 GND, AA9 GND, AA12 GND, AA14 GND, AA16 GND, AA18 GND, AA20 GND, AA24 GND, AA26 GND, AA28 GND, AA30 GND, AA32 GND, AA42 GND, AB1 GND, AB5 GND, AB9 GND, AB13 GND, AB15 GND, AB17 GND, AB19 GND, AB21 GND, AB25 GND, AB27 GND, AB29 GND, AB31 GND, AB33 GND, AB39 GND, AC3 GND, AC7 GND, AC9 GND, AC12 GND, AC14 GND, AC16 GND, AC18 GND, AC20 GND, AC24 GND, AC26 GND, AC28 GND, AC30 GND, AC32 GND, AC36 GND, AD1 GND, AD2 GND, AD5 GND, AD6 GND, AD9 GND, AD13 GND, AD15 GND, AD17 GND, AD19 GND, AD21 GND, AD25 GND, AD27 GND, AD29 GND, AD31 GND, AD33 GND, AD43 GND, AE3 GND, AE4 GND, AE7 GND, AE8 GND, AE9 GND, AE12 GND, AE14 GND, AE16 GND, AE18 GND, AE20 GND, AE22 GND, AE24 GND, AE26 GND, AE28 GND, AE30 GND, AE32 GND, AE40 GND, AF1 GND, AF5 GND, AF9 GND, AF13 GND, AF15 GND, AF17 GND, AF19 GND, AF21 GND, AF23 GND, AF25 GND, AF27 GND, AF29 GND, AF31 GND, AF33 GND, AF37 GND, AG3 GND, AG7 GND, AG9 GND, AG12 GND, AG14 GND, AG16 GND, AG18 GND, AG20 GND, AG22 GND, AG24 GND, AG26 GND, AG28 GND, AG30 GND, AG32 GND, AG34 GND, AG44 GND, AH1 GND, AH2 GND, AH5 GND, AH7 GND, AH8 GND, AH9 GND, AH13 GND, AH21 GND, AH31 GND, AH33 GND, AH41 GND, AJ3 GND, AJ4 GND, AJ7 GND, AJ9 GND, AJ18 GND, AJ28 GND, AJ38 GND, AK1 GND, AK5 GND, AK9 GND, AK15 GND, AK25 GND, AK35 GND, AL3 GND, AL7 GND, AL9 GND, AL12 GND, AL22 GND, AL32 GND, AL42 GND, AM1 GND, AM2 GND, AM5 GND, AM6 GND, AM9 GND, AM19 GND, AM29 GND, AM39 GND, AN3 GND, AN4 GND, AN7 GND, AN8 GND, AN9 GND, AN16 GND, AN26 GND, AN36 GND, AP1 GND, AP5 GND, AP9 GND, AP13 GND, AP23 GND, AP33 GND, AP43 GND, AR3 GND, AR7 GND, AR9 GND, AR10 GND, AR20 GND, AR30 GND, AR40 GND, AT1 GND, AT2 GND, AT5 GND, AT6 GND, AT9 GND, AT17 GND, AT27 GND, AT37 GND, AU3 GND, AU4 GND, AU7 GND, AU8 GND, AU9 GND, AU14 GND, AU24 GND, AU34 GND, AU44 GND, AV1 GND, AV5 GND, AV9 GND, AV11 GND, AV21 GND, AV31 GND, AV41 GND, AW3 GND, AW7 GND, AW9 GND, AW18 GND, AW28 GND, AW38 GND, AY1 GND, AY2 GND, AY5 GND, AY6 GND, AY9 GND, AY15 GND, AY25 GND, AY35 GND, BA3 GND, BA4 GND, BA7 GND, BA8 GND, BA9 GND, BA12 GND, BA22 GND, BA32 GND, BA42 GND, BB1 GND, BB5 GND, BB9 GND, BB19 GND, BB29 GND, BB39 GND, BC2 GND, BC3 GND, BC7 GND, BC9 GND, BC16 GND, BC26 GND, BC36 GND, BD5 GND, BD6 GND, BD9 GND, BD13 GND, BD23 GND, BD33 GND, U44 GND, V1 GND, V5 GND, V9 GND, V13 GND, V15 GND, V17 GND, V19 GND, V21 GND, V23 GND, V25 GND, V27 GND, V29 GND, V31 GND, V33 GND, V41 GND, W3 GND, W7 GND, W9 GND, W12 GND, W14 GND, W16 GND, W18 GND, W20 GND, W22 GND, W24 GND, W26 GND, W28 GND, W30 GND, W32 GND, W38 GND, Y1 GND, Y2 GND, Y5 GND, Y6 GND, Y9 GND, Y13 GND, Y15 GND, Y17 GND, Y19 GND, Y21 GND, Y23 GND, Y25 GND, Y27 GND, Y29 GND, Y31 GND, Y33 GND, Y35 GND

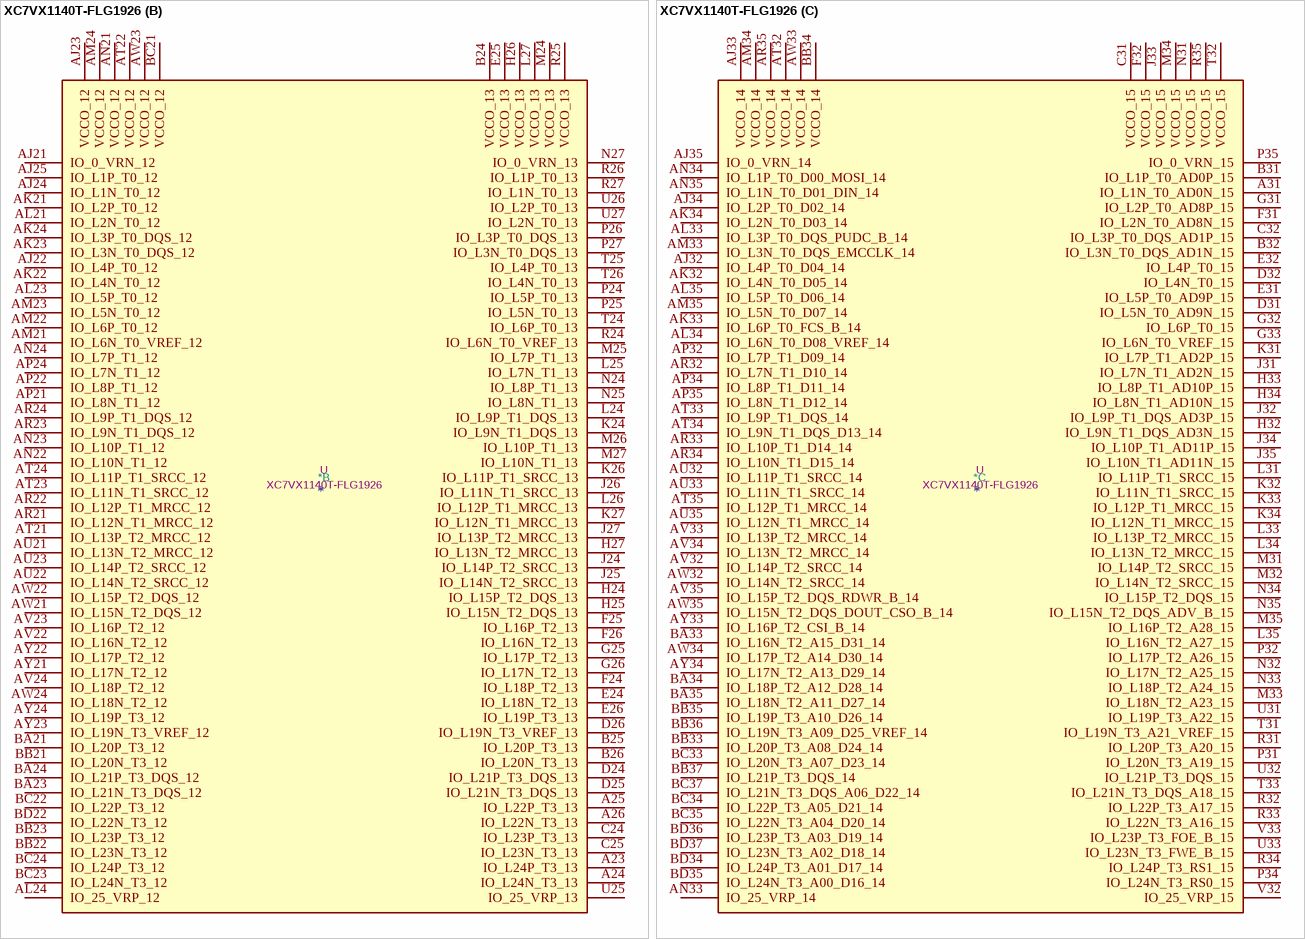
[diagram p156: symbol XC7VX1140T-FLG1926]

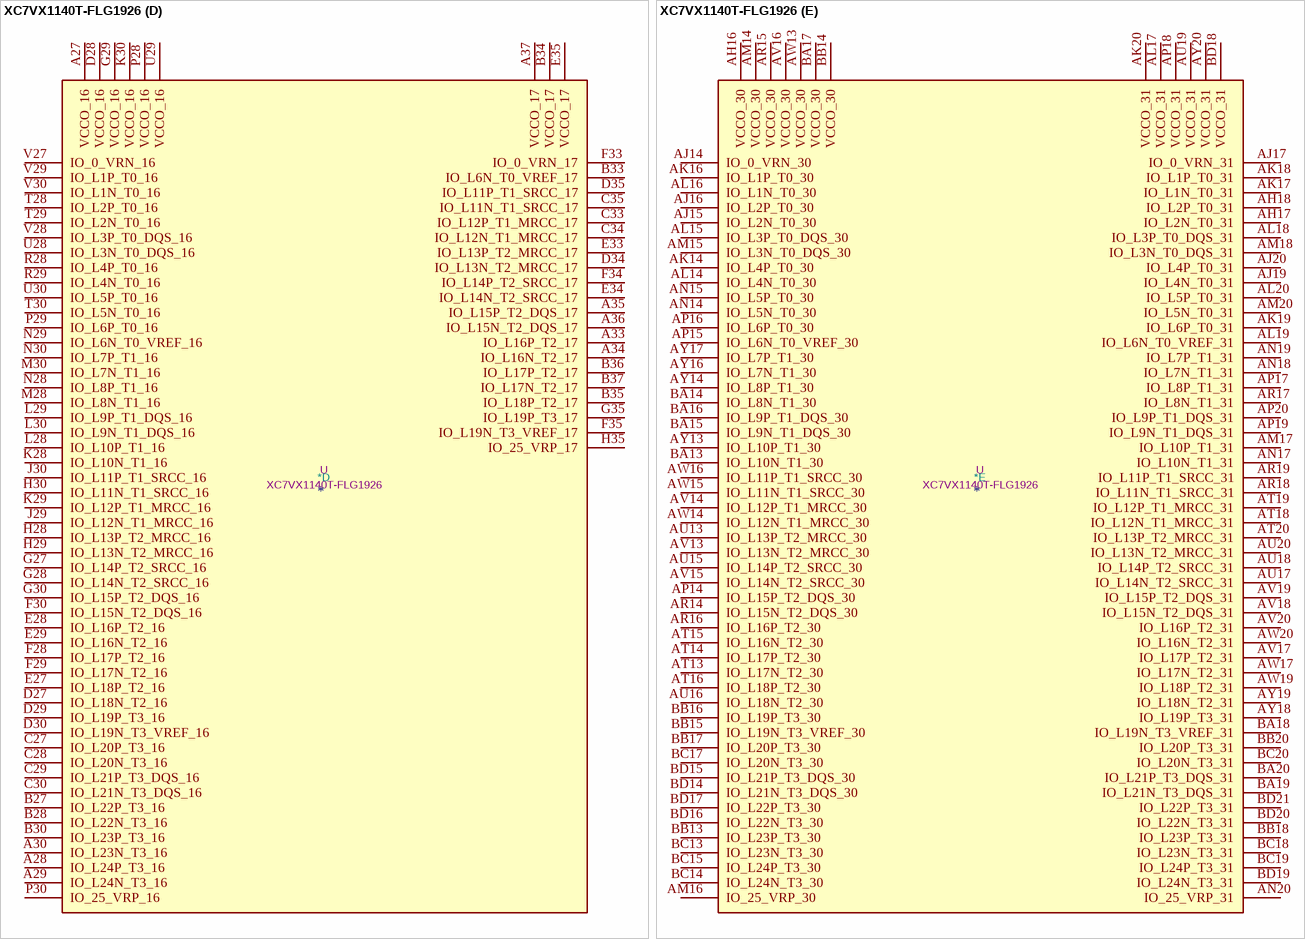
[diagram p157: symbol XC7VX1140T-FLG1926]

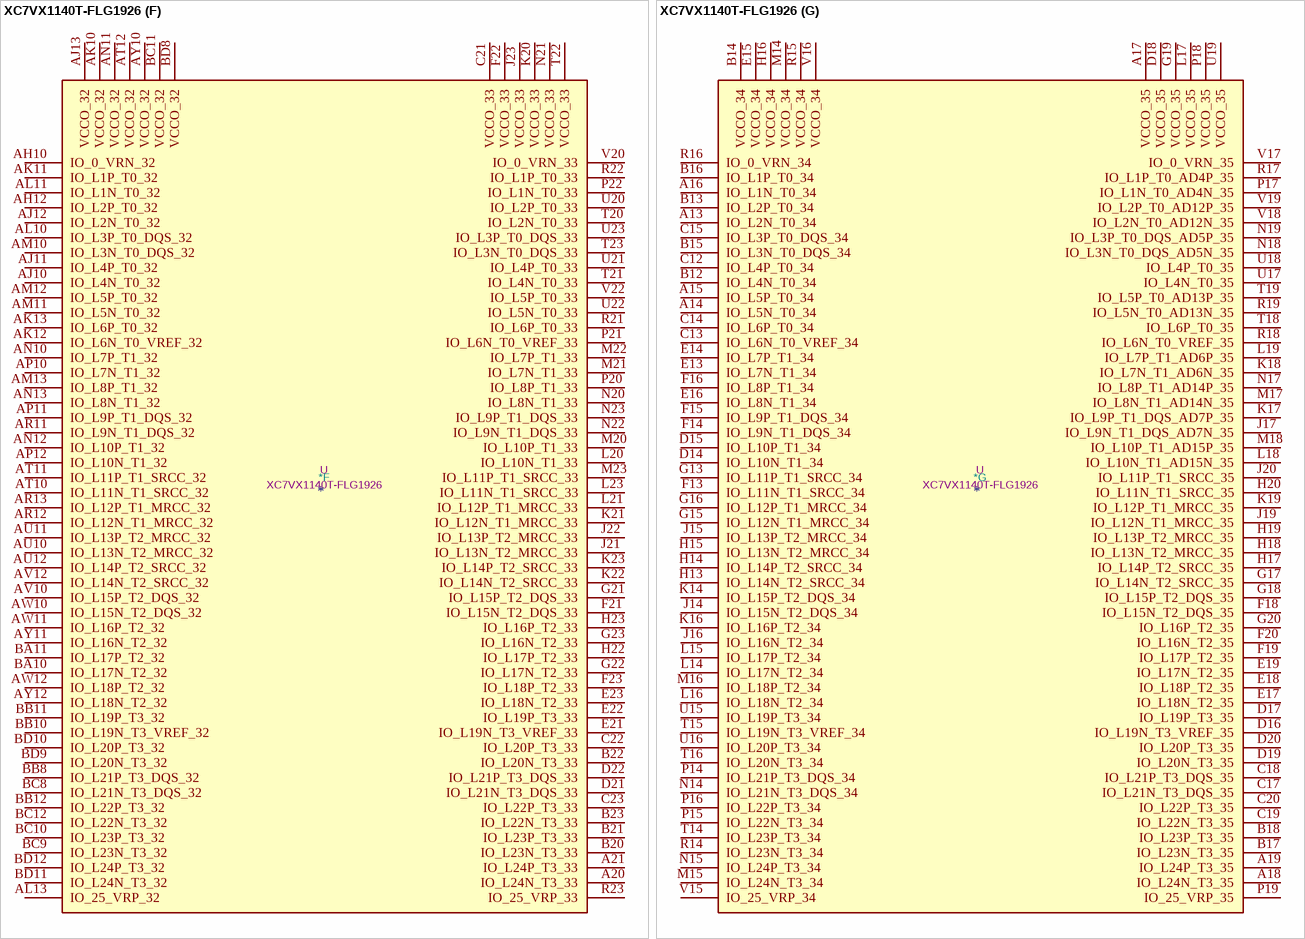
[diagram p158: symbol XC7VX1140T-FLG1926]

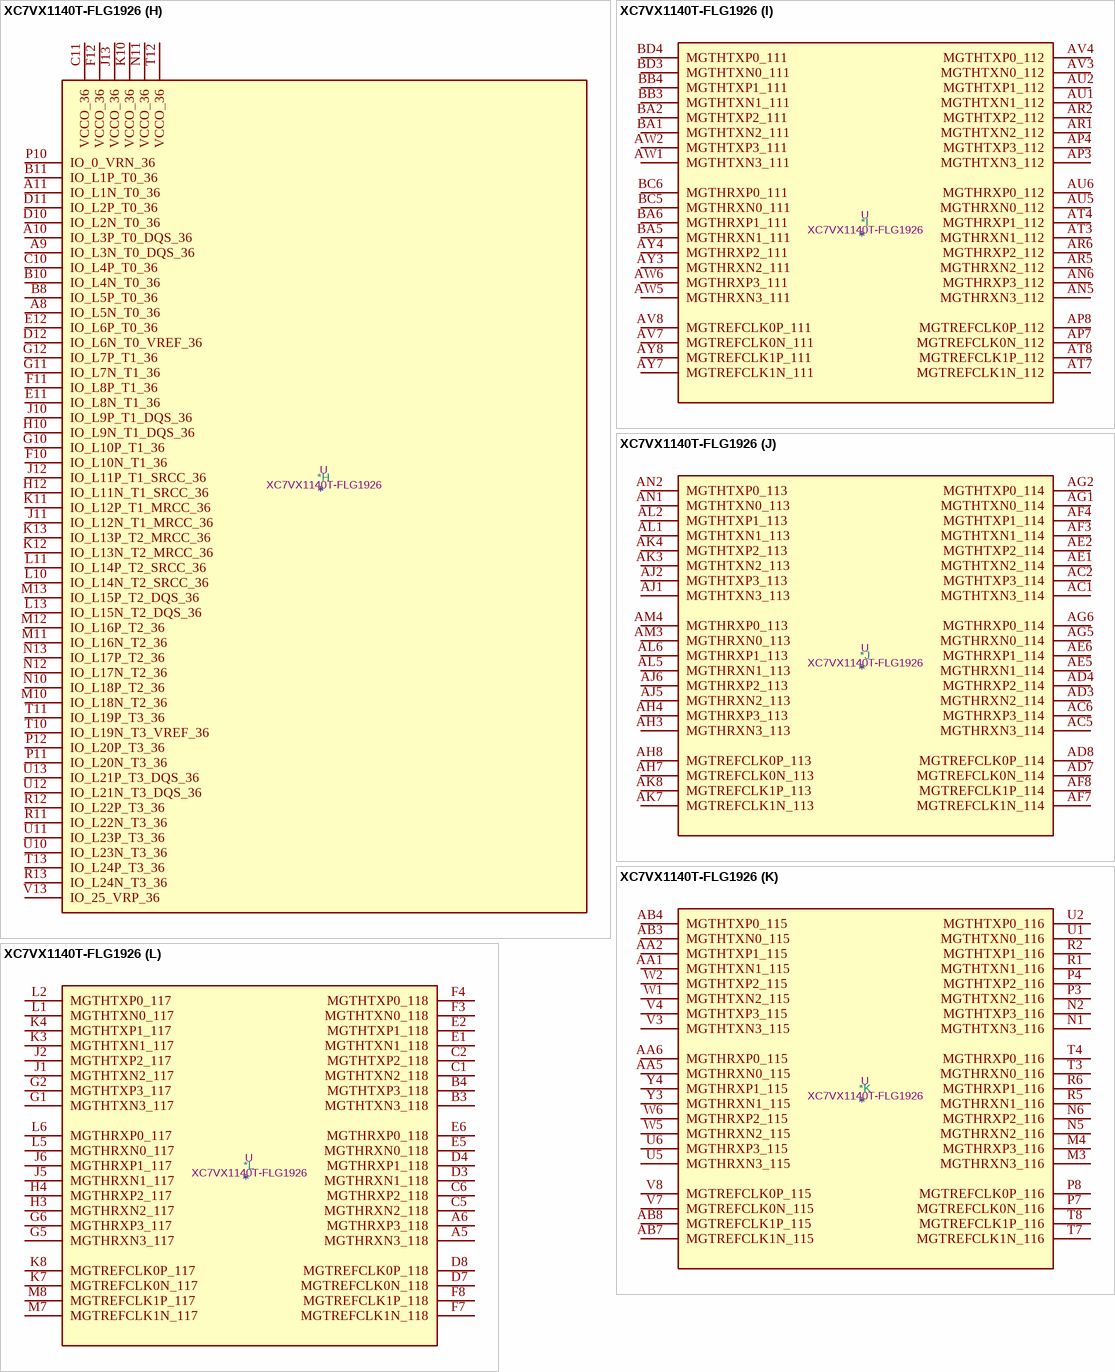
[diagram p159: symbol XC7VX1140T-FLG1926]

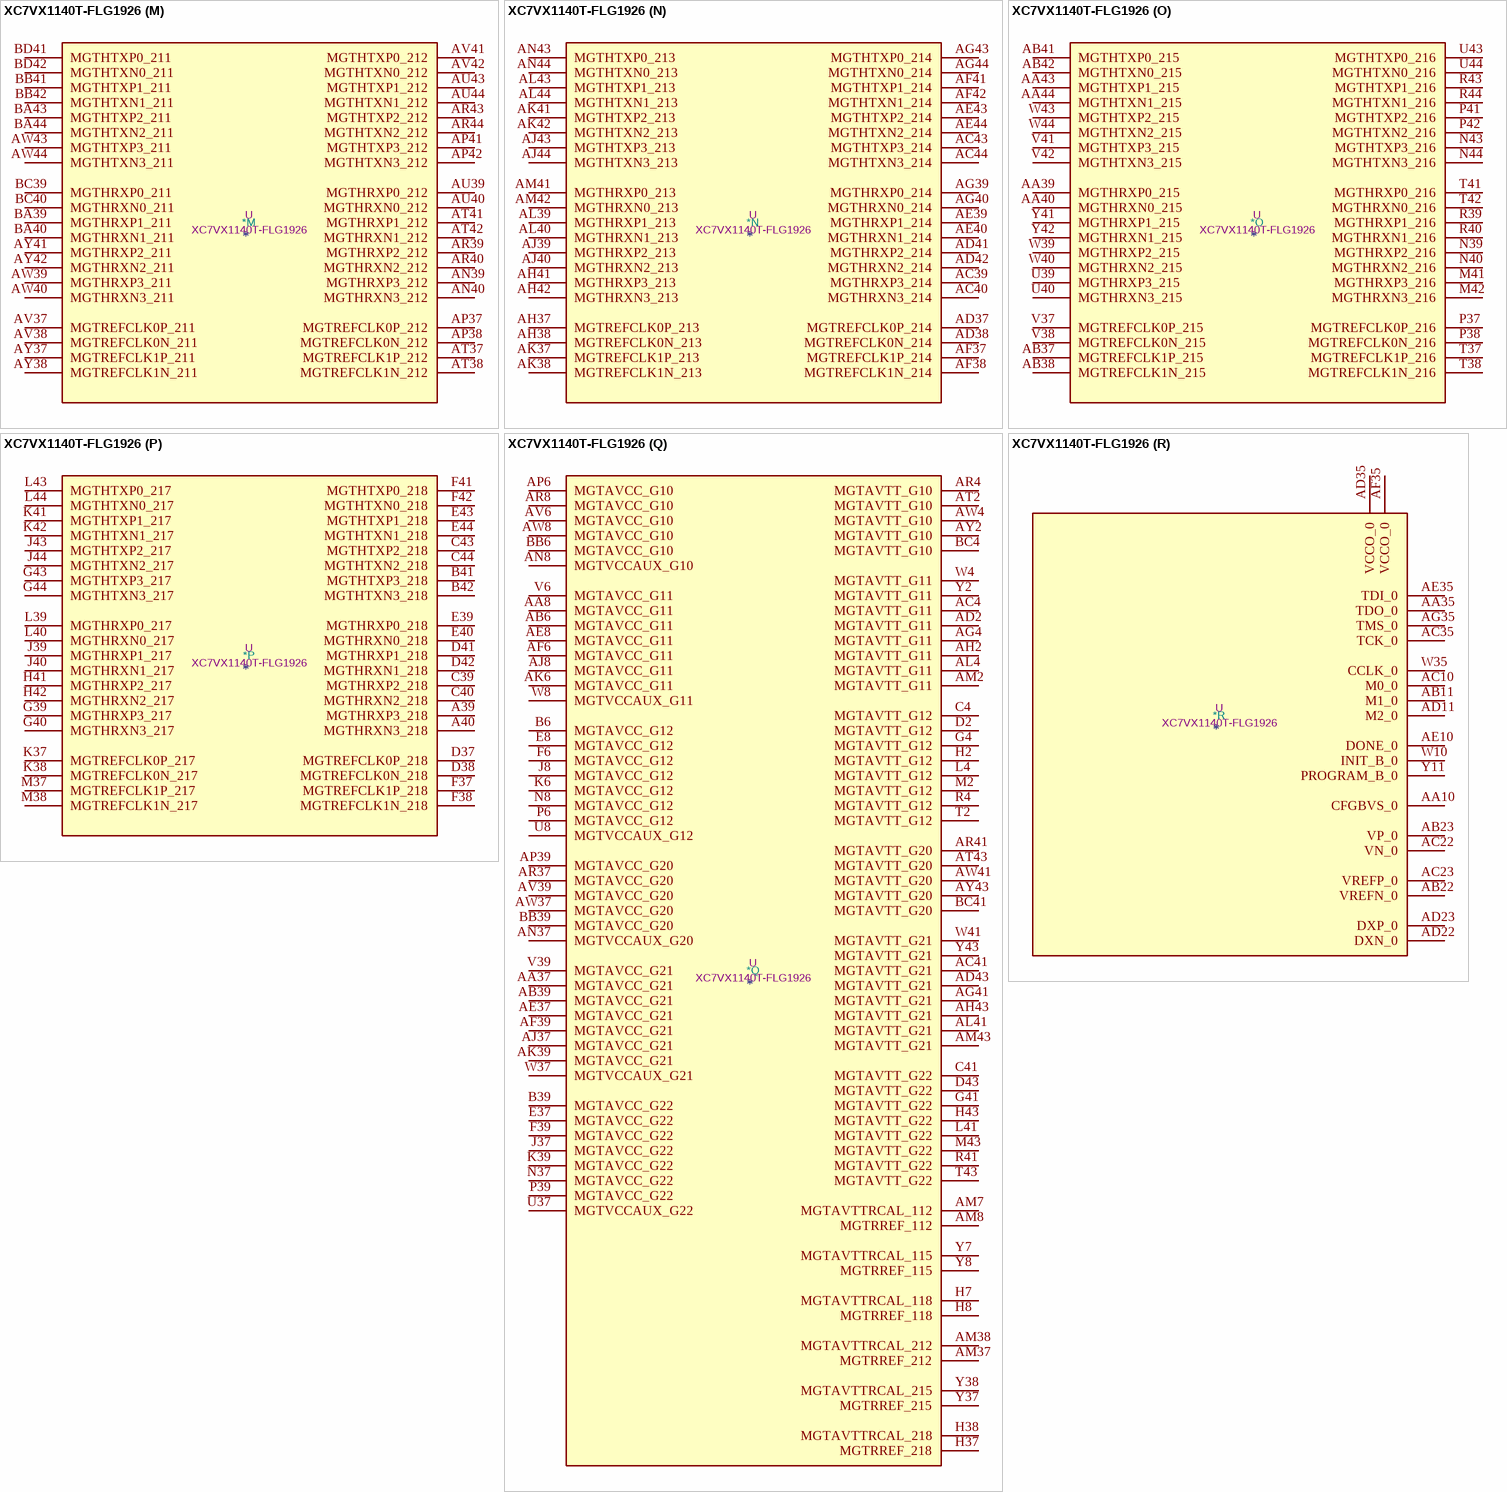
[diagram p160: symbol XC7VX1140T-FLG1926]

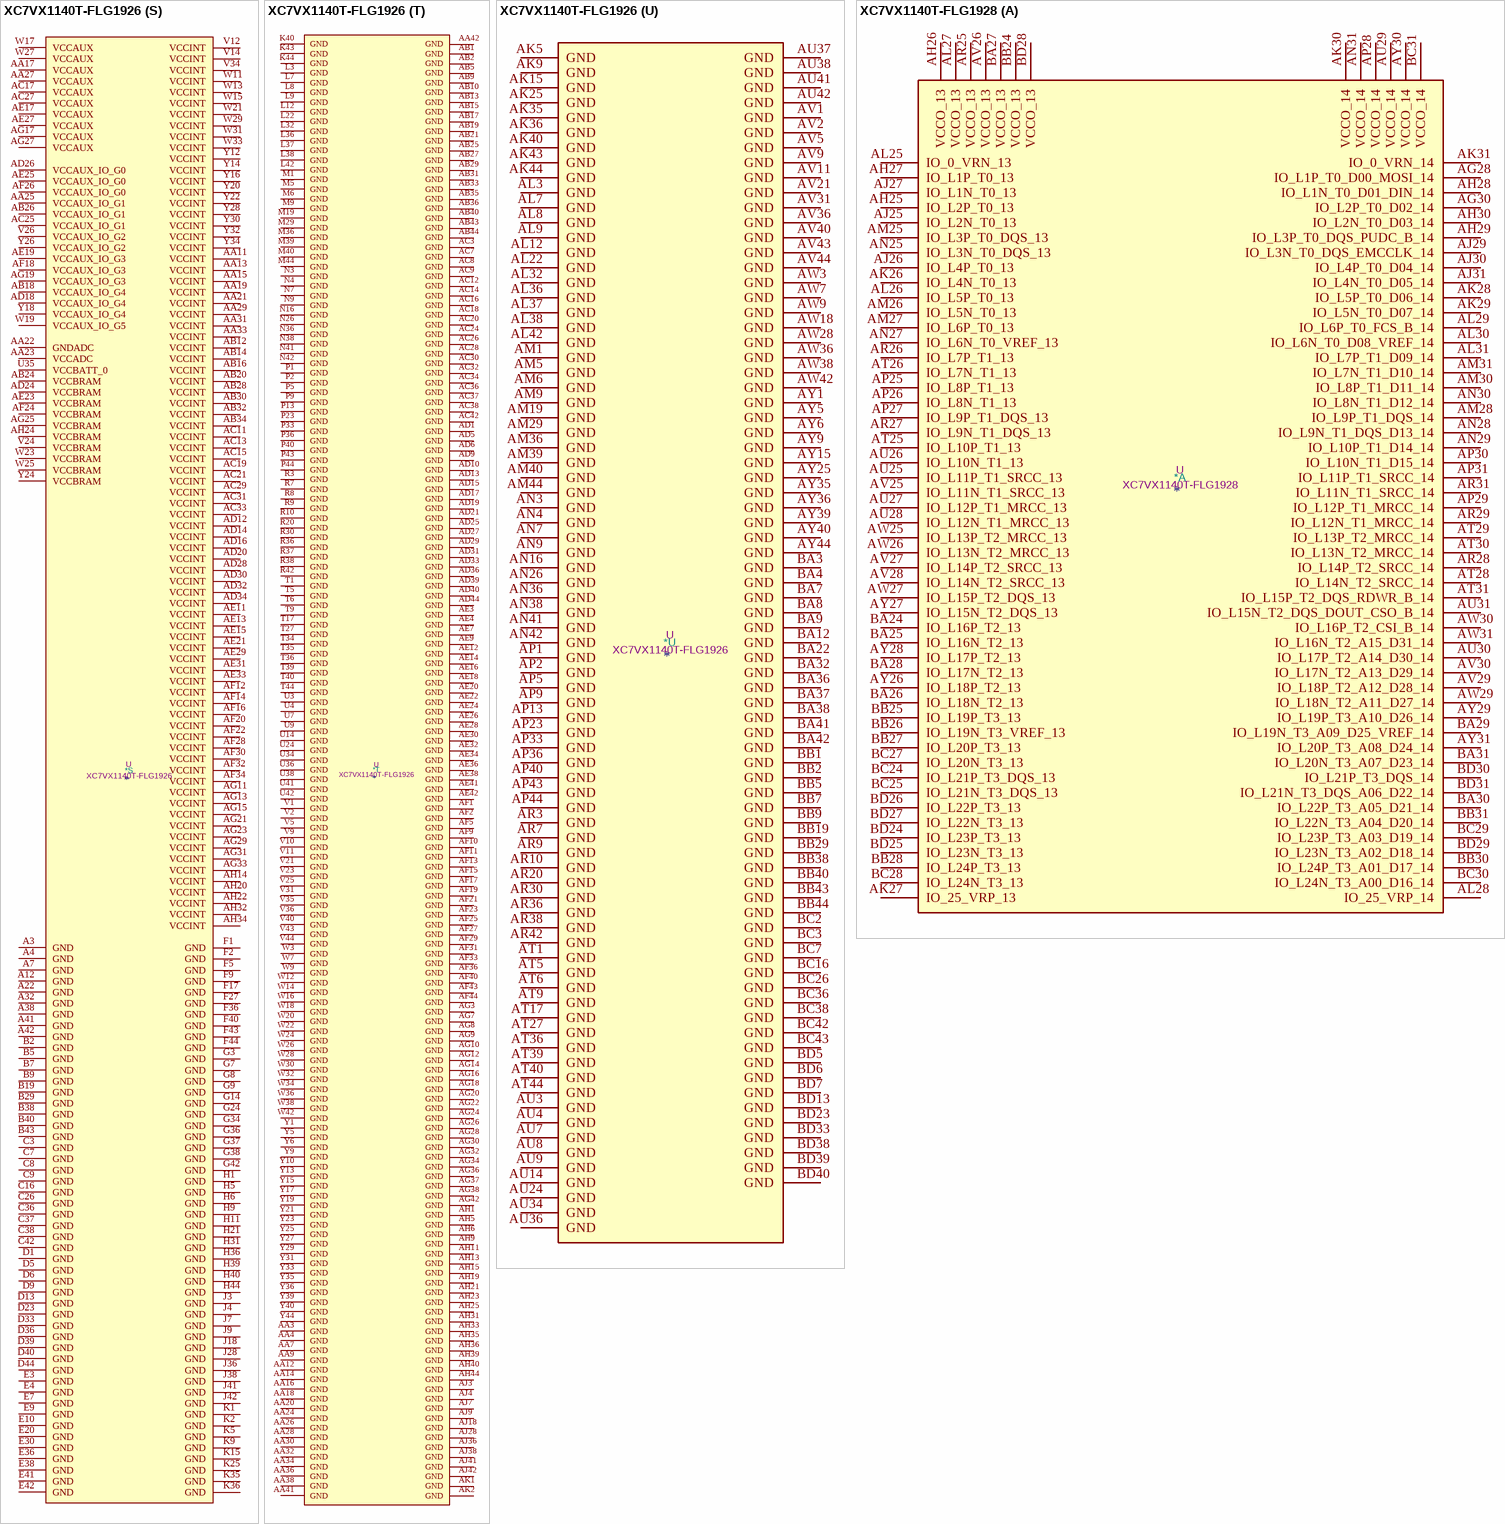
[diagram p161: symbols XC7VX1140T-FLG1926 to XC7VX1140T-FLG1928]